# Altium footprint library SOD-923_0P6X0P85_ONS.PcbLib: 1 footprints
Each footprint in its own frame and in the unit in brackets; x right, y up, seen from the top. Pads: shape width x height; smd on the part's side, far side on the other; paste and mask are expansions set on the pad; w line width, h text height; cw(c..) or ccw(c..) is an arc to the next point about the centre after c.
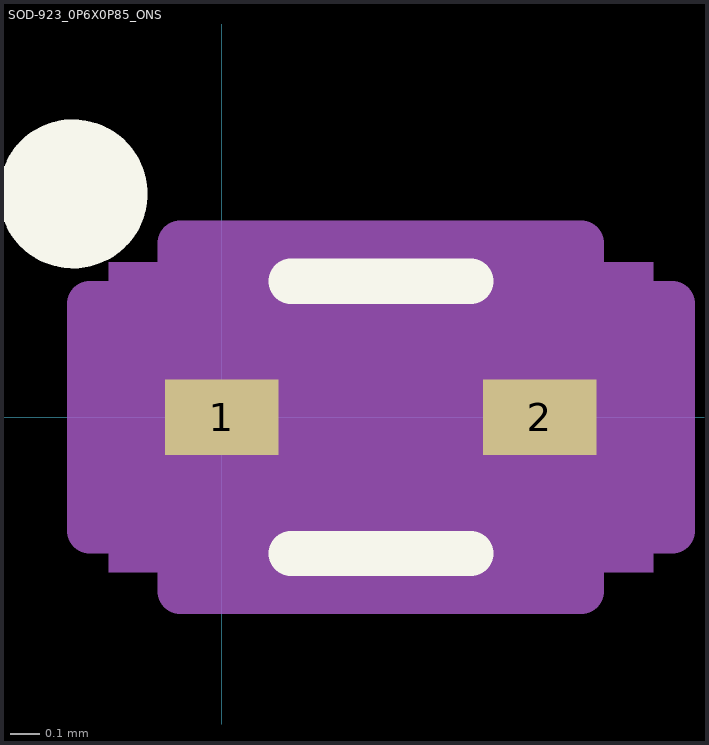
[diagram p0: the footprint, top view; thin cyan lines are the x and y axes]

## SOD-923_0P6X0P85_ONS [mil]
pads (2):
  rect 15x10 smd paste+0 mask+0: 1(0,0) 2(42,0)
Top Overlay:
  circle w9.84: c-19.68,29.53 r4.92
  lines w6: 9.12,-18 32.88,-18 ; 9.12,18 32.88,18
Mechanical 5:
  region: 57,-20.5 -15,-20.5 -15,20.5 57,20.5
Mechanical 13:
  lines w1: 4.5,-6.5 11,-13 ; 4.5,6.5 11,13 ; 0.5,-5 0.5,5 4.5,5 4.5,-5 0.5,-5 ; 4.5,-13 37.5,-13 37.5,13 4.5,13 4.5,-13 ; 37.5,-5 37.5,5 41.5,5 41.5,-5 37.5,-5
  text "*" at 2,-25 h50
Mechanical 15:
  region: -5.5,-15 -17.5,-15 -17.5,15 -5.5,15 -5.5,23 47.5,23 47.5,15 59.5,15 59.5,-15 47.5,-15 47.5,-23 -5.5,-23
  lines w6: -17.5,-15 -17.5,15 -5.5,15 -5.5,23 47.5,23 47.5,15 59.5,15 59.5,-15 47.5,-15 47.5,-23 -5.5,-23 -5.5,-15 -17.5,-15
3D body "SOD-923_0P6X0P85_ONS.step": height 9.21, standoff 0, extent 1.14,-13.78 42.17,13.31